# Altium schematic symbol library Power IC.SchLib: 1 symbol
Pins are listed as number, name and electrical type; pins without a type are passive.

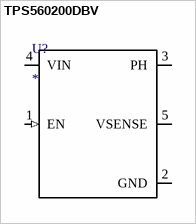
[diagram p0: symbol TPS560200DBV]

## TPS560200DBV
designator U?
Name: *
pins: 1 EN (in), 2 GND (power), 3 PH (power), 4 VIN (power), 5 VSENSE